# Altium integrated library Capacitors - Ceramic - 0402.IntLib: 4569 symbols (part 31 of 100)
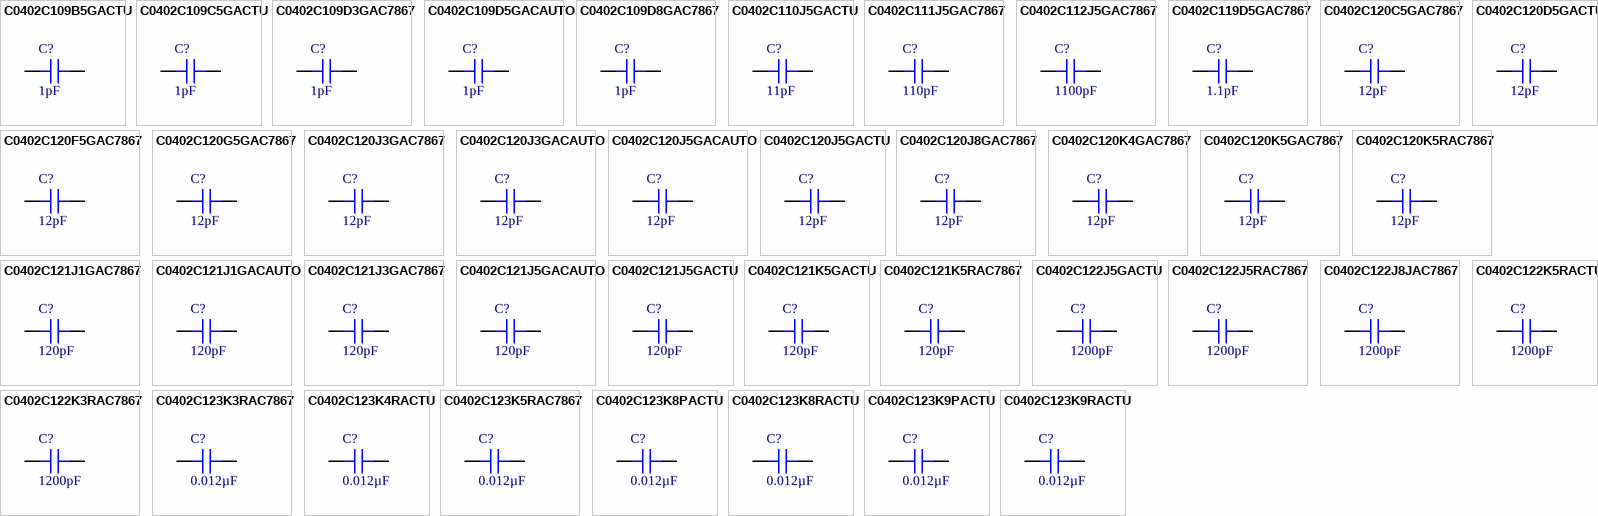
[diagram p144: symbols C0402C109B5GACTU to C0402C123K9RACTU]

## C0402C123K9RACTU
designator C?, comment 0.012µF
CAP CER 0.012UF 6.3V X7R 0402; Part Number: C0402C123K9RACTU; Manufacturer: KEMET; Tolerance: ±10%; Value: 0.012µF; Applications: Bypass, Decoupling; Capacitance: 0.012µF; ComponentLink1Description: Datasheet; ComponentLink1URL: https://api.kemet.com/component-edge/download/datasheet/C0402C123K9RACTU.pdf; ComponentLink2Description: DigiKey Link; ComponentLink2URL: http://digikey.com/product-detail/en/kemet/C0402C123K9RACTU/399-4877-1-ND/1090872; Device Package: 0402 (1005 Metric); LastUpdated: 9/2/2020 1:02:03 AM; Lifecycle Status: Active; Minimum Order: 1; Mounting Type: Surface Mount, MLCC; Operating Temperature: -55°C ~ 125°C; Package / Case: 0402 (1005 Metric); Packaging: TapeAndReel; PartId: 11169; Part Status: Active; Price: 0.07; Series: SMD Comm X7R; Size / Dimension: 0.039" L x 0.020" W (1.00mm x 0.50mm); Supplier 1: DigiKey; Supplier Part Number 1: 399-4877-1-ND; Temperature Coefficient: X7R; Thickness (Max): 0.022" (0.55mm); Voltage - Rated: 6.3V
footprint CAP 0402_1005
pins: 1, 2

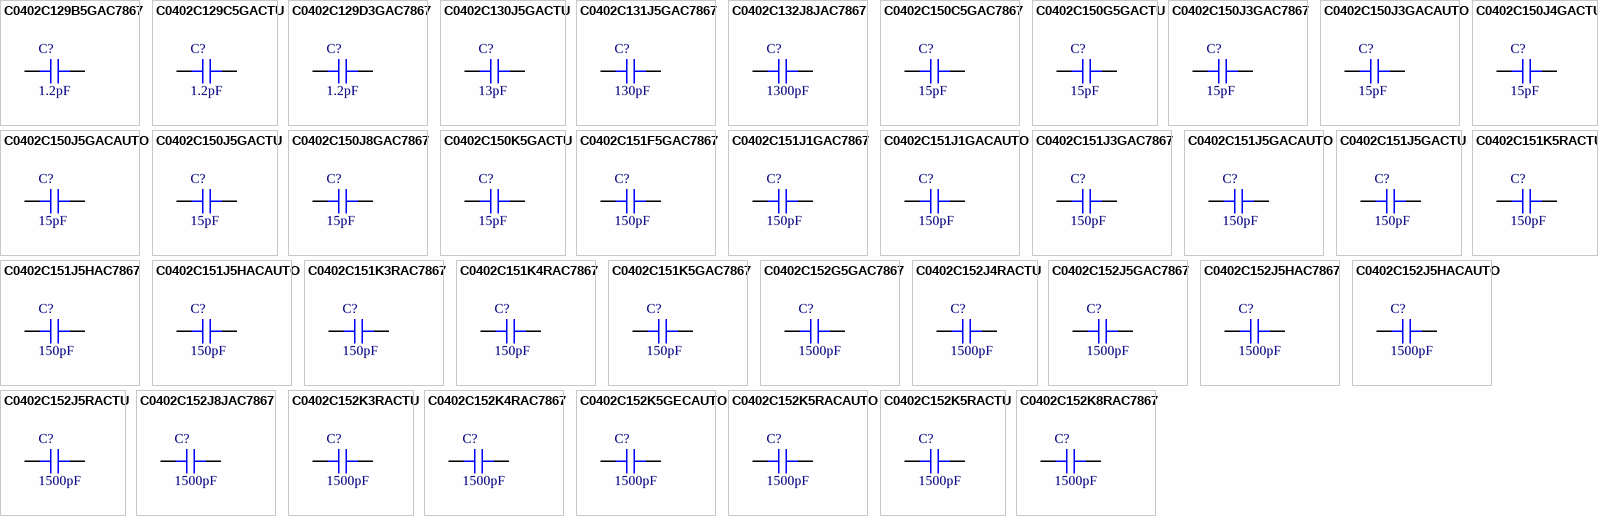
[diagram p35: symbols C0402C129B5GAC7867 to C0402C152K8RAC7867]

## C0402C129B5GAC7867
designator C?, comment 1.2pF
CAP CER SMD 0402 1.2PF .1PF% COG; Part Number: C0402C129B5GAC7867; Manufacturer: KEMET; Temperature Coefficient: C0G, NP0; Tolerance: ±0.1pF; Voltage - Rated: 50V; Value: 1.2pF; Applications: General Purpose; Capacitance: 1.2pF; ComponentLink1Description: Datasheet; ComponentLink1URL: https://api.kemet.com/component-edge/download/datasheet/C0402C129B5GAC7867.pdf; ComponentLink2Description: DigiKey Link; ComponentLink2URL: http://digikey.com/product-detail/en/kemet/C0402C129B5GAC7867/399-17550-1-ND/8572550; Device Package: 0402 (1005 Metric); Features: Low ESL; LastUpdated: 9/2/2020 1:01:32 AM; Lifecycle Status: Active; Minimum Order: 1; Mounting Type: Surface Mount, MLCC; Operating Temperature: -55°C ~ 125°C; Package / Case: 0402 (1005 Metric); Packaging: TapeAndReel; PartId: 12805; Part Status: Active; Price: 0.05; Series: SMD Comm C0G; Size / Dimension: 0.039" L x 0.020" W (1.00mm x 0.50mm); Supplier 1: DigiKey; Supplier Part Number 1: 399-17550-1-ND; Thickness (Max): 0.022" (0.55mm)
footprint CAP 0402_1005
pins: 1, 2

## C0402C129C5GACTU
designator C?, comment 1.2pF
CAP CER 1.2PF 50V C0G/NP0 0402; Part Number: C0402C129C5GACTU; Manufacturer: KEMET; Temperature Coefficient: C0G, NP0; Tolerance: ±0.25pF; Value: 1.2pF; Applications: General Purpose; Capacitance: 1.2pF; ComponentLink1Description: Datasheet; ComponentLink1URL: https://api.kemet.com/component-edge/download/datasheet/C0402C129C5GACTU.pdf; ComponentLink2Description: DigiKey Link; ComponentLink2URL: http://digikey.com/product-detail/en/kemet/C0402C129C5GACTU/399-1001-1-ND/411276; Device Package: 0402 (1005 Metric); Features: Low ESL; LastUpdated: 9/2/2020 1:02:10 AM; Lifecycle Status: Active; Minimum Order: 1; Mounting Type: Surface Mount, MLCC; Operating Temperature: -55°C ~ 125°C; Package / Case: 0402 (1005 Metric); Packaging: TapeAndReel; PartId: 8365; Part Status: Active; Price: 0.01; Series: SMD Comm C0G; Size / Dimension: 0.039" L x 0.020" W (1.00mm x 0.50mm); Supplier 1: DigiKey; Supplier Part Number 1: 399-1001-1-ND; Thickness (Max): 0.022" (0.55mm); Voltage - Rated: 50V
footprint CAP 0402_1005
pins: 1, 2

## C0402C129D3GAC7867
designator C?, comment 1.2pF
CAP CER 1.2PF 25V C0G/NP0 0402; Part Number: C0402C129D3GAC7867; Manufacturer: KEMET; Temperature Coefficient: C0G, NP0; Tolerance: ±0.5pF; Value: 1.2pF; Applications: General Purpose; Capacitance: 1.2pF; ComponentLink1Description: Datasheet; ComponentLink1URL: https://api.kemet.com/component-edge/download/datasheet/C0402C129D3GAC7867.pdf; ComponentLink2Description: DigiKey Link; ComponentLink2URL: http://digikey.com/product-detail/en/kemet/C0402C129D3GAC7867/399-14883-1-ND/7382432; Device Package: 0402 (1005 Metric); Features: Low ESL; LastUpdated: 9/2/2020 1:01:20 AM; Lifecycle Status: Active; Minimum Order: 1; Mounting Type: Surface Mount, MLCC; Operating Temperature: -55°C ~ 125°C; Package / Case: 0402 (1005 Metric); Packaging: TapeAndReel; PartId: 13226; Part Status: Active; Price: 0.07; Series: SMD Comm C0G; Size / Dimension: 0.039" L x 0.020" W (1.00mm x 0.50mm); Supplier 1: DigiKey; Supplier Part Number 1: 399-14883-1-ND; Thickness (Max): 0.022" (0.55mm); Voltage - Rated: 25V
footprint CAP 0402_1005
pins: 1, 2

## C0402C130J5GACTU
designator C?, comment 13pF
CAP CER 13PF 50V C0G/NP0 0402; Part Number: C0402C130J5GACTU; Manufacturer: KEMET; Temperature Coefficient: C0G, NP0; Tolerance: ±5%; Value: 13pF; Applications: General Purpose; Capacitance: 13pF; ComponentLink1Description: Datasheet; ComponentLink1URL: https://api.kemet.com/component-edge/download/datasheet/C0402C130J5GACTU.pdf; ComponentLink2Description: DigiKey Link; ComponentLink2URL: http://digikey.com/product-detail/en/kemet/C0402C130J5GACTU/399-8946-1-ND/3522463; Device Package: 0402 (1005 Metric); Features: Low ESL; LastUpdated: 9/2/2020 1:02:17 AM; Lifecycle Status: Active; Minimum Order: 1; Mounting Type: Surface Mount, MLCC; Operating Temperature: -55°C ~ 125°C; Package / Case: 0402 (1005 Metric); Packaging: TapeAndReel; PartId: 4954; Part Status: Active; Price: 0.09; Series: SMD Comm C0G; Size / Dimension: 0.039" L x 0.020" W (1.00mm x 0.50mm); Supplier 1: DigiKey; Supplier Part Number 1: 399-8946-1-ND; Thickness (Max): 0.022" (0.55mm); Voltage - Rated: 50V
footprint CAP 0402_1005
pins: 1, 2

## C0402C131J5GAC7867
designator C?, comment 130pF
CAP CER 130PF 50V NP0 0402; Part Number: C0402C131J5GAC7867; Manufacturer: KEMET; Temperature Coefficient: C0G, NP0; Tolerance: ±5%; Value: 130pF; Applications: General Purpose; Capacitance: 130pF; ComponentLink1Description: Datasheet; ComponentLink1URL: https://api.kemet.com/component-edge/download/datasheet/C0402C131J5GACTU.pdf; ComponentLink2Description: DigiKey Link; ComponentLink2URL: http://digikey.com/product-detail/en/kemet/C0402C131J5GAC7867/399-14420-1-ND/7103712; Device Package: 0402 (1005 Metric); Features: Low ESL; LastUpdated: 9/2/2020 1:01:31 AM; Lifecycle Status: Active; Minimum Order: 1; Mounting Type: Surface Mount, MLCC; Operating Temperature: -55°C ~ 125°C; Package / Case: 0402 (1005 Metric); Packaging: TapeAndReel; PartId: 12840; Part Status: Active; Price: 0.10; Series: SMD Comm C0G; Size / Dimension: 0.039" L x 0.020" W (1.00mm x 0.50mm); Supplier 1: DigiKey; Supplier Part Number 1: 399-14420-1-ND; Thickness (Max): 0.022" (0.55mm); Voltage - Rated: 50V
footprint CAP 0402_1005
pins: 1, 2

## C0402C132J8JAC7867
designator C?, comment 1300pF
CAP CER 1300PF 10V U2J 0402; Part Number: C0402C132J8JAC7867; Manufacturer: KEMET; Tolerance: ±5%; Value: 1300pF; Applications: General Purpose; Capacitance: 1300pF; ComponentLink1Description: Datasheet; ComponentLink1URL: https://api.kemet.com/component-edge/download/datasheet/C0402C132J8JAC7867.pdf; ComponentLink2Description: DigiKey Link; ComponentLink2URL: http://digikey.com/product-detail/en/kemet/C0402C132J8JAC7867/399-13400-1-ND/6123119; Device Package: 0402 (1005 Metric); Features: Low ESL, Low Dissipation Factor; LastUpdated: 9/2/2020 1:02:22 AM; Lifecycle Status: Active; Minimum Order: 1; Mounting Type: Surface Mount, MLCC; Operating Temperature: -55°C ~ 125°C; Package / Case: 0402 (1005 Metric); Packaging: TapeAndReel; PartId: 2436; Part Status: Active; Price: 0.05; Series: SMD Comm U2J; Size / Dimension: 0.039" L x 0.020" W (1.00mm x 0.50mm); Supplier 1: DigiKey; Supplier Part Number 1: 399-13400-1-ND; Temperature Coefficient: U2J; Thickness (Max): 0.022" (0.55mm); Voltage - Rated: 10V
footprint CAP 0402_1005
pins: 1, 2

## C0402C150C5GAC7867
designator C?, comment 15pF
CAP CER 15PF 50V NP0 0402; Part Number: C0402C150C5GAC7867; Manufacturer: KEMET; Temperature Coefficient: C0G, NP0; Tolerance: ±0.25pF; Value: 15pF; Applications: General Purpose; Capacitance: 15pF; ComponentLink1Description: Datasheet; ComponentLink1URL: https://api.kemet.com/component-edge/download/datasheet/C0402C150C5GACTU.pdf; ComponentLink2Description: DigiKey Link; ComponentLink2URL: http://digikey.com/product-detail/en/kemet/C0402C150C5GAC7867/399-17366-1-ND/8570333; Device Package: 0402 (1005 Metric); Features: Low ESL; LastUpdated: 9/2/2020 1:02:13 AM; Lifecycle Status: Active; Minimum Order: 1; Mounting Type: Surface Mount, MLCC; Operating Temperature: -55°C ~ 125°C; Package / Case: 0402 (1005 Metric); Packaging: TapeAndReel; PartId: 6642; Part Status: Active; Price: 0.26; Series: SMD Comm C0G; Size / Dimension: 0.039" L x 0.020" W (1.00mm x 0.50mm); Supplier 1: DigiKey; Supplier Part Number 1: 399-17366-1-ND; Thickness (Max): 0.022" (0.55mm); Voltage - Rated: 50V
footprint CAP 0402_1005
pins: 1, 2

## C0402C150G5GACTU
designator C?, comment 15pF
CAP CER 15PF 50V C0G/NP0 0402; Part Number: C0402C150G5GACTU; Manufacturer: KEMET; Temperature Coefficient: C0G, NP0; Tolerance: ±2%; Value: 15pF; Applications: General Purpose; Capacitance: 15pF; ComponentLink1Description: Datasheet; ComponentLink1URL: https://api.kemet.com/component-edge/download/datasheet/C0402C150G5GACTU.pdf; ComponentLink2Description: DigiKey Link; ComponentLink2URL: http://digikey.com/product-detail/en/kemet/C0402C150G5GACTU/399-11114-1-ND/4357777; Device Package: 0402 (1005 Metric); Features: Low ESL; LastUpdated: 9/2/2020 1:02:23 AM; Lifecycle Status: Active; Minimum Order: 1; Mounting Type: Surface Mount, MLCC; Operating Temperature: -55°C ~ 125°C; Package / Case: 0402 (1005 Metric); Packaging: TapeAndReel; PartId: 2135; Part Status: Active; Price: 0.21; Series: SMD Comm C0G; Size / Dimension: 0.039" L x 0.020" W (1.00mm x 0.50mm); Supplier 1: DigiKey; Supplier Part Number 1: 399-11114-1-ND; Thickness (Max): 0.022" (0.55mm); Voltage - Rated: 50V
footprint CAP 0402_1005
pins: 1, 2

## C0402C150J3GAC7867
designator C?, comment 15pF
CAP CER 15PF 25V NP0 0402; Part Number: C0402C150J3GAC7867; Manufacturer: KEMET; Temperature Coefficient: C0G, NP0; Tolerance: ±5%; Value: 15pF; Applications: General Purpose; Capacitance: 15pF; ComponentLink1Description: Datasheet; ComponentLink1URL: https://api.kemet.com/component-edge/download/datasheet/C0402C150J3GACTU.pdf; ComponentLink2Description: DigiKey Link; ComponentLink2URL: http://digikey.com/product-detail/en/kemet/C0402C150J3GAC7867/399-15298-1-ND/7386696; Device Package: 0402 (1005 Metric); Features: Low ESL; LastUpdated: 9/2/2020 1:02:19 AM; Lifecycle Status: Active; Minimum Order: 1; Mounting Type: Surface Mount, MLCC; Operating Temperature: -55°C ~ 125°C; Package / Case: 0402 (1005 Metric); Packaging: TapeAndReel; PartId: 4112; Part Status: Active; Price: 0.04; Series: SMD Comm C0G; Size / Dimension: 0.039" L x 0.020" W (1.00mm x 0.50mm); Supplier 1: DigiKey; Supplier Part Number 1: 399-15298-1-ND; Thickness (Max): 0.022" (0.55mm); Voltage - Rated: 25V
footprint CAP 0402_1005
pins: 1, 2

## C0402C150J3GACAUTO
designator C?, comment 15pF
CAP CER 15PF 25V C0G/NP0 0402; Part Number: C0402C150J3GACAUTO; Manufacturer: KEMET; Temperature Coefficient: C0G, NP0; Tolerance: ±5%; Value: 15pF; Applications: Automotive; Capacitance: 15pF; ComponentLink1Description: Datasheet; ComponentLink1URL: https://api.kemet.com/component-edge/download/datasheet/C0402C150J3GACAUTO.pdf; ComponentLink2Description: DigiKey Link; ComponentLink2URL: http://digikey.com/product-detail/en/kemet/C0402C150J3GACAUTO/399-6830-1-ND/3314345; Device Package: 0402 (1005 Metric); Features: Low ESL; LastUpdated: 9/2/2020 1:01:33 AM; Lifecycle Status: Active; Minimum Order: 1; Mounting Type: Surface Mount, MLCC; Operating Temperature: -55°C ~ 125°C; Package / Case: 0402 (1005 Metric); Packaging: TapeAndReel; PartId: 12770; Part Status: Active; Price: 0.05; Ratings: AEC-Q200; Series: SMD Auto C0G; Size / Dimension: 0.039" L x 0.020" W (1.00mm x 0.50mm); Supplier 1: DigiKey; Supplier Part Number 1: 399-6830-1-ND; Thickness (Max): 0.022" (0.55mm); Voltage - Rated: 25V
footprint CAP 0402_1005
pins: 1, 2

## C0402C150J4GACTU
designator C?, comment 15pF
CAP CER 15PF 16V C0G/NP0 0402; Part Number: C0402C150J4GACTU; Manufacturer: KEMET; Temperature Coefficient: C0G, NP0; Tolerance: ±5%; Value: 15pF; Applications: General Purpose; Capacitance: 15pF; ComponentLink1Description: Datasheet; ComponentLink1URL: https://api.kemet.com/component-edge/download/datasheet/C0402C150J4GACTU.pdf; ComponentLink2Description: DigiKey Link; ComponentLink2URL: http://digikey.com/product-detail/en/kemet/C0402C150J4GACTU/399-8947-1-ND/3522464; Device Package: 0402 (1005 Metric); Features: Low ESL; LastUpdated: 9/2/2020 1:02:17 AM; Lifecycle Status: Active; Minimum Order: 1; Mounting Type: Surface Mount, MLCC; Operating Temperature: -55°C ~ 125°C; Package / Case: 0402 (1005 Metric); Packaging: CutTape; PartId: 4832; Part Status: Active; Price: 0.10; Series: SMD Comm C0G; Size / Dimension: 0.039" L x 0.020" W (1.00mm x 0.50mm); Supplier 1: DigiKey; Supplier Part Number 1: 399-8947-1-ND; Thickness (Max): 0.022" (0.55mm); Voltage - Rated: 16V
footprint CAP 0402_1005
pins: 1, 2

## C0402C150J5GACAUTO
designator C?, comment 15pF
CAP CER 15PF 50V NP0 0402; Part Number: C0402C150J5GACAUTO; Manufacturer: KEMET; Temperature Coefficient: C0G, NP0; Tolerance: ±5%; Value: 15pF; Applications: Automotive; Capacitance: 15pF; ComponentLink1Description: Datasheet; ComponentLink1URL: https://api.kemet.com/component-edge/download/datasheet/C0402C150J5GACAUTO.pdf; ComponentLink2Description: DigiKey Link; ComponentLink2URL: http://digikey.com/product-detail/en/kemet/C0402C150J5GACAUTO/399-14421-1-ND/7103713; Device Package: 0402 (1005 Metric); Features: Low ESL; LastUpdated: 9/2/2020 1:02:10 AM; Lifecycle Status: Active; Minimum Order: 1; Mounting Type: Surface Mount, MLCC; Operating Temperature: -55°C ~ 125°C; Package / Case: 0402 (1005 Metric); Packaging: TapeAndReel; PartId: 8392; Part Status: Active; Price: 0.01; Ratings: AEC-Q200; Series: SMD Auto C0G; Size / Dimension: 0.039" L x 0.020" W (1.00mm x 0.50mm); Supplier 1: DigiKey; Supplier Part Number 1: 399-14421-1-ND; Thickness (Max): 0.022" (0.55mm); Voltage - Rated: 50V
footprint CAP 0402_1005
pins: 1, 2

## C0402C150J5GACTU
designator C?, comment 15pF
CAP CER 15PF 50V C0G/NP0 0402; Part Number: C0402C150J5GACTU; Manufacturer: KEMET; Temperature Coefficient: C0G, NP0; Tolerance: ±5%; Value: 15pF; Applications: General Purpose; Capacitance: 15pF; ComponentLink1Description: Datasheet; ComponentLink1URL: https://api.kemet.com/component-edge/download/datasheet/C0402C150J5GACTU.pdf; ComponentLink2Description: DigiKey Link; ComponentLink2URL: http://digikey.com/product-detail/en/kemet/C0402C150J5GACTU/399-1014-1-ND/411289; Device Package: 0402 (1005 Metric); Features: Low ESL; LastUpdated: 9/2/2020 1:01:41 AM; Lifecycle Status: Active; Minimum Order: 1; Mounting Type: Surface Mount, MLCC; Operating Temperature: -55°C ~ 125°C; Package / Case: 0402 (1005 Metric); Packaging: TapeAndReel; PartId: 12510; Part Status: Active; Price: 0.01; Series: SMD Comm C0G; Size / Dimension: 0.039" L x 0.020" W (1.00mm x 0.50mm); Supplier 1: DigiKey; Supplier Part Number 1: 399-1014-1-ND; Thickness (Max): 0.022" (0.55mm); Voltage - Rated: 50V
footprint CAP 0402_1005
pins: 1, 2

## C0402C150J8GAC7867
designator C?, comment 15pF
CAP CER 15PF 10V C0G/NP0 0402; Part Number: C0402C150J8GAC7867; Manufacturer: KEMET; Temperature Coefficient: C0G, NP0; Tolerance: ±5%; Value: 15pF; Applications: General Purpose; Capacitance: 15pF; ComponentLink1Description: Datasheet; ComponentLink1URL: https://api.kemet.com/component-edge/download/datasheet/C0402C150J8GAC7867.pdf; ComponentLink2Description: DigiKey Link; ComponentLink2URL: http://digikey.com/product-detail/en/kemet/C0402C150J8GAC7867/399-14885-1-ND/7382434; Device Package: 0402 (1005 Metric); Features: Low ESL; LastUpdated: 9/2/2020 1:02:11 AM; Lifecycle Status: Active; Minimum Order: 1; Mounting Type: Surface Mount, MLCC; Operating Temperature: -55°C ~ 125°C; Package / Case: 0402 (1005 Metric); Packaging: TapeAndReel; PartId: 7562; Part Status: Active; Price: 0.07; Series: SMD Comm C0G; Size / Dimension: 0.039" L x 0.020" W (1.00mm x 0.50mm); Supplier 1: DigiKey; Supplier Part Number 1: 399-14885-1-ND; Thickness (Max): 0.022" (0.55mm); Voltage - Rated: 10V
footprint CAP 0402_1005
pins: 1, 2

## C0402C150K5GACTU
designator C?, comment 15pF
CAP CER 15PF 50V C0G/NP0 0402; Part Number: C0402C150K5GACTU; Manufacturer: KEMET; Temperature Coefficient: C0G, NP0; Tolerance: ±10%; Value: 15pF; Applications: General Purpose; Capacitance: 15pF; ComponentLink1Description: Datasheet; ComponentLink1URL: https://api.kemet.com/component-edge/download/datasheet/C0402C150K5GACTU.pdf; ComponentLink2Description: DigiKey Link; ComponentLink2URL: http://digikey.com/product-detail/en/kemet/C0402C150K5GACTU/399-8948-1-ND/3522465; Device Package: 0402 (1005 Metric); Features: Low ESL; LastUpdated: 9/2/2020 1:01:42 AM; Lifecycle Status: Active; Minimum Order: 1; Mounting Type: Surface Mount, MLCC; Operating Temperature: -55°C ~ 125°C; Package / Case: 0402 (1005 Metric); Packaging: TapeAndReel; PartId: 12469; Part Status: Active; Price: 0.01; Series: SMD Comm C0G; Size / Dimension: 0.039" L x 0.020" W (1.00mm x 0.50mm); Supplier 1: DigiKey; Supplier Part Number 1: 399-8948-1-ND; Thickness (Max): 0.022" (0.55mm); Voltage - Rated: 50V
footprint CAP 0402_1005
pins: 1, 2

## C0402C151F5GAC7867
designator C?, comment 150pF
CAP CER 150PF 50V NP0 0402; Part Number: C0402C151F5GAC7867; Manufacturer: KEMET; Temperature Coefficient: C0G, NP0; Tolerance: ±1%; Value: 150pF; Applications: General Purpose; Capacitance: 150pF; ComponentLink1Description: Datasheet; ComponentLink1URL: https://api.kemet.com/component-edge/download/datasheet/C0402C151F5GAC7867.pdf; ComponentLink2Description: DigiKey Link; ComponentLink2URL: http://digikey.com/product-detail/en/kemet/C0402C151F5GAC7867/399-14269-1-ND/6827260; Device Package: 0402 (1005 Metric); Features: Low ESL; LastUpdated: 9/2/2020 1:02:26 AM; Lifecycle Status: Active; Minimum Order: 1; Mounting Type: Surface Mount, MLCC; Operating Temperature: -55°C ~ 125°C; Package / Case: 0402 (1005 Metric); Packaging: TapeAndReel; PartId: 1709; Part Status: Active; Price: 0.43; Series: SMD Comm C0G; Size / Dimension: 0.039" L x 0.020" W (1.00mm x 0.50mm); Supplier 1: DigiKey; Supplier Part Number 1: 399-14269-1-ND; Thickness (Max): 0.022" (0.55mm); Voltage - Rated: 50V
footprint CAP 0402_1005
pins: 1, 2

## C0402C151J1GAC7867
designator C?, comment 150pF
CAP CER 150PF 100V C0G/NP0 0402; Part Number: C0402C151J1GAC7867; Manufacturer: KEMET; Temperature Coefficient: C0G, NP0; Tolerance: ±5%; Value: 150pF; Applications: General Purpose; Capacitance: 150pF; ComponentLink1Description: Datasheet; ComponentLink1URL: https://api.kemet.com/component-edge/download/datasheet/C0402C151J1GAC7867.pdf; ComponentLink2Description: DigiKey Link; ComponentLink2URL: http://digikey.com/product-detail/en/kemet/C0402C151J1GAC7867/399-14886-1-ND/7382435; Device Package: 0402 (1005 Metric); Features: Low ESL; LastUpdated: 9/2/2020 1:02:22 AM; Lifecycle Status: Active; Minimum Order: 1; Mounting Type: Surface Mount, MLCC; Operating Temperature: -55°C ~ 125°C; Package / Case: 0402 (1005 Metric); Packaging: TapeAndReel; PartId: 2506; Part Status: Active; Price: 0.09; Series: SMD Comm C0G; Size / Dimension: 0.039" L x 0.020" W (1.00mm x 0.50mm); Supplier 1: DigiKey; Supplier Part Number 1: 399-14886-1-ND; Thickness (Max): 0.022" (0.55mm); Voltage - Rated: 100V
footprint CAP 0402_1005
pins: 1, 2

## C0402C151J1GACAUTO
designator C?, comment 150pF
CAP CER 150PF 100V C0G/NP0 0402; Part Number: C0402C151J1GACAUTO; Manufacturer: KEMET; Temperature Coefficient: C0G, NP0; Tolerance: ±5%; Value: 150pF; Applications: Automotive; Capacitance: 150pF; ComponentLink1Description: Datasheet; ComponentLink1URL: https://api.kemet.com/component-edge/download/datasheet/C0402C151J1GACAUTO.pdf; ComponentLink2Description: DigiKey Link; ComponentLink2URL: http://digikey.com/product-detail/en/kemet/C0402C151J1GACAUTO/399-15852-1-ND/7516352; Device Package: 0402 (1005 Metric); Features: Low ESL; LastUpdated: 9/2/2020 1:02:17 AM; Lifecycle Status: Active; Minimum Order: 1; Mounting Type: Surface Mount, MLCC; Operating Temperature: -55°C ~ 125°C; Package / Case: 0402 (1005 Metric); Packaging: TapeAndReel; PartId: 4978; Part Status: Active; Price: 0.09; Ratings: AEC-Q200; Series: SMD Auto C0G; Size / Dimension: 0.039" L x 0.020" W (1.00mm x 0.50mm); Supplier 1: DigiKey; Supplier Part Number 1: 399-15852-1-ND; Thickness (Max): 0.022" (0.55mm); Voltage - Rated: 100V
footprint CAP 0402_1005
pins: 1, 2

## C0402C151J3GAC7867
designator C?, comment 150pF
CAP CER 150PF 25V NP0 0402; Part Number: C0402C151J3GAC7867; Manufacturer: KEMET; Temperature Coefficient: C0G, NP0; Tolerance: ±5%; Value: 150pF; Applications: General Purpose; Capacitance: 150pF; ComponentLink1Description: Datasheet; ComponentLink1URL: https://api.kemet.com/component-edge/download/datasheet/C0402C151J3GACTU.pdf; ComponentLink2Description: DigiKey Link; ComponentLink2URL: http://digikey.com/product-detail/en/kemet/C0402C151J3GAC7867/399-14422-1-ND/7103714; Device Package: 0402 (1005 Metric); Features: Low ESL; LastUpdated: 9/2/2020 1:02:24 AM; Lifecycle Status: Active; Minimum Order: 1; Mounting Type: Surface Mount, MLCC; Operating Temperature: -55°C ~ 125°C; Package / Case: 0402 (1005 Metric); Packaging: TapeAndReel; PartId: 1914; Part Status: Active; Price: 0.01; Series: SMD Comm C0G; Size / Dimension: 0.039" L x 0.020" W (1.00mm x 0.50mm); Supplier 1: DigiKey; Supplier Part Number 1: 399-14422-1-ND; Thickness (Max): 0.022" (0.55mm); Voltage - Rated: 25V
footprint CAP 0402_1005
pins: 1, 2

## C0402C151J5GACAUTO
designator C?, comment 150pF
CAP CER 150PF 50V C0G/NP0 0402; Part Number: C0402C151J5GACAUTO; Manufacturer: KEMET; Temperature Coefficient: C0G, NP0; Tolerance: ±5%; Value: 150pF; Applications: Automotive; Capacitance: 150pF; ComponentLink1Description: Datasheet; ComponentLink1URL: https://api.kemet.com/component-edge/download/datasheet/C0402C151J5GACAUTO.pdf; ComponentLink2Description: DigiKey Link; ComponentLink2URL: http://digikey.com/product-detail/en/kemet/C0402C151J5GACAUTO/399-15948-1-ND/7516448; Device Package: 0402 (1005 Metric); Features: Low ESL; LastUpdated: 9/2/2020 1:02:10 AM; Lifecycle Status: Active; Minimum Order: 1; Mounting Type: Surface Mount, MLCC; Operating Temperature: -55°C ~ 125°C; Package / Case: 0402 (1005 Metric); Packaging: TapeAndReel; PartId: 8137; Part Status: Active; Price: 0.01; Ratings: AEC-Q200; Series: SMD Auto C0G; Size / Dimension: 0.039" L x 0.020" W (1.00mm x 0.50mm); Supplier 1: DigiKey; Supplier Part Number 1: 399-15948-1-ND; Thickness (Max): 0.022" (0.55mm); Voltage - Rated: 50V
footprint CAP 0402_1005
pins: 1, 2

## C0402C151J5GACTU
designator C?, comment 150pF
CAP CER 150PF 50V C0G/NP0 0402; Part Number: C0402C151J5GACTU; Manufacturer: KEMET; Temperature Coefficient: C0G, NP0; Tolerance: ±5%; Value: 150pF; Applications: General Purpose; Capacitance: 150pF; ComponentLink1Description: Datasheet; ComponentLink1URL: https://api.kemet.com/component-edge/download/datasheet/C0402C151J5GACTU.pdf; ComponentLink2Description: DigiKey Link; ComponentLink2URL: http://digikey.com/product-detail/en/kemet/C0402C151J5GACTU/399-7770-1-ND/3471493; Device Package: 0402 (1005 Metric); Features: Low ESL; LastUpdated: 9/2/2020 1:02:16 AM; Lifecycle Status: Active; Minimum Order: 1; Mounting Type: Surface Mount, MLCC; Operating Temperature: -55°C ~ 125°C; Package / Case: 0402 (1005 Metric); Packaging: TapeAndReel; PartId: 5667; Part Status: Active; Price: 0.01; Series: SMD Comm C0G; Size / Dimension: 0.039" L x 0.020" W (1.00mm x 0.50mm); Supplier 1: DigiKey; Supplier Part Number 1: 399-7770-1-ND; Thickness (Max): 0.022" (0.55mm); Voltage - Rated: 50V
footprint CAP 0402_1005
pins: 1, 2

## C0402C151J5HAC7867
designator C?, comment 150pF
CAP CER 150PF 50V X8R 5% 0402; Part Number: C0402C151J5HAC7867; Manufacturer: KEMET; Value: 150pF; Applications: General Purpose; Capacitance: 150pF; ComponentLink1Description: Datasheet; ComponentLink1URL: https://api.kemet.com/component-edge/download/datasheet/C0402C151J5HAC7867.pdf; ComponentLink2Description: DigiKey Link; ComponentLink2URL: http://digikey.com/product-detail/en/kemet/C0402C151J5HAC7867/399-16398-1-ND/7795478; Device Package: 0402 (1005 Metric); Features: Low ESL, High Temperature; LastUpdated: 9/2/2020 1:02:24 AM; Lifecycle Status: Active; Minimum Order: 1; Mounting Type: Surface Mount, MLCC; Operating Temperature: -55°C ~ 150°C; Package / Case: 0402 (1005 Metric); Packaging: TapeAndReel; PartId: 1998; Part Status: Active; Price: 0.11; Series: SMD Comm X8R HT150C; Size / Dimension: 0.039" L x 0.020" W (1.00mm x 0.50mm); Supplier 1: DigiKey; Supplier Part Number 1: 399-16398-1-ND; Temperature Coefficient: X8R; Thickness (Max): 0.022" (0.55mm); Tolerance: ±5%; Voltage - Rated: 50V
footprint CAP 0402_1005
pins: 1, 2

## C0402C151J5HACAUTO
designator C?, comment 150pF
CAP CER 150PF 50V X8R 0402; Part Number: C0402C151J5HACAUTO; Manufacturer: KEMET; Tolerance: ±5%; Value: 150pF; Applications: Automotive; Capacitance: 150pF; ComponentLink1Description: Datasheet; ComponentLink1URL: https://api.kemet.com/component-edge/download/datasheet/C0402C151J5HACAUTO.pdf; ComponentLink2Description: DigiKey Link; ComponentLink2URL: http://digikey.com/product-detail/en/kemet/C0402C151J5HACAUTO/399-15787-1-ND/7516287; Device Package: 0402 (1005 Metric); Features: Low ESL, High Temperature; LastUpdated: 9/2/2020 1:02:24 AM; Lifecycle Status: Active; Minimum Order: 1; Mounting Type: Surface Mount, MLCC; Operating Temperature: -55°C ~ 150°C; Package / Case: 0402 (1005 Metric); Packaging: TapeAndReel; PartId: 2001; Part Status: Active; Price: 0.11; Ratings: AEC-Q200; Series: SMD Auto X8R HT150C; Size / Dimension: 0.039" L x 0.020" W (1.00mm x 0.50mm); Supplier 1: DigiKey; Supplier Part Number 1: 399-15787-1-ND; Temperature Coefficient: X8R; Thickness (Max): 0.022" (0.55mm); Voltage - Rated: 50V
footprint CAP 0402_1005
pins: 1, 2

## C0402C151K3RAC7867
designator C?, comment 150pF
CAP CER 150PF 25V X7R 0402; Part Number: C0402C151K3RAC7867; Manufacturer: KEMET; Tolerance: ±10%; Value: 150pF; Applications: Bypass, Decoupling; Capacitance: 150pF; ComponentLink1Description: Datasheet; ComponentLink1URL: https://api.kemet.com/component-edge/download/datasheet/C0402C151K3RACTU.pdf; ComponentLink2Description: DigiKey Link; ComponentLink2URL: http://digikey.com/product-detail/en/kemet/C0402C151K3RAC7867/399-17367-1-ND/8570334; Device Package: 0402 (1005 Metric); LastUpdated: 9/2/2020 1:02:14 AM; Lifecycle Status: Active; Minimum Order: 1; Mounting Type: Surface Mount, MLCC; Operating Temperature: -55°C ~ 125°C; Package / Case: 0402 (1005 Metric); Packaging: TapeAndReel; PartId: 6584; Part Status: Active; Price: 0.08; Series: SMD Comm X7R; Size / Dimension: 0.039" L x 0.020" W (1.00mm x 0.50mm); Supplier 1: DigiKey; Supplier Part Number 1: 399-17367-1-ND; Temperature Coefficient: X7R; Thickness (Max): 0.022" (0.55mm); Voltage - Rated: 25V
footprint CAP 0402_1005
pins: 1, 2

## C0402C151K4RAC7867
designator C?, comment 150pF
CAP CER 150PF 16V X7R 0402; Part Number: C0402C151K4RAC7867; Manufacturer: KEMET; Tolerance: ±10%; Value: 150pF; Applications: Bypass, Decoupling; Capacitance: 150pF; ComponentLink1Description: Datasheet; ComponentLink1URL: https://api.kemet.com/component-edge/download/datasheet/C0402C151K4RACTU.pdf; ComponentLink2Description: DigiKey Link; ComponentLink2URL: http://digikey.com/product-detail/en/kemet/C0402C151K4RAC7867/399-14423-1-ND/7103715; Device Package: 0402 (1005 Metric); LastUpdated: 9/2/2020 1:02:14 AM; Lifecycle Status: Active; Minimum Order: 1; Mounting Type: Surface Mount, MLCC; Operating Temperature: -55°C ~ 125°C; Package / Case: 0402 (1005 Metric); Packaging: TapeAndReel; PartId: 6612; Part Status: Active; Price: 0.08; Series: SMD Comm X7R; Size / Dimension: 0.039" L x 0.020" W (1.00mm x 0.50mm); Supplier 1: DigiKey; Supplier Part Number 1: 399-14423-1-ND; Temperature Coefficient: X7R; Thickness (Max): 0.022" (0.55mm); Voltage - Rated: 16V
footprint CAP 0402_1005
pins: 1, 2

## C0402C151K5GAC7867
designator C?, comment 150pF
CAP CER 150PF 50V NP0 0402; Part Number: C0402C151K5GAC7867; Manufacturer: KEMET; Temperature Coefficient: C0G, NP0; Tolerance: ±10%; Value: 150pF; Applications: General Purpose; Capacitance: 150pF; ComponentLink1Description: Datasheet; ComponentLink1URL: https://api.kemet.com/component-edge/download/datasheet/C0402C151K5GAC7867.pdf; ComponentLink2Description: DigiKey Link; ComponentLink2URL: http://digikey.com/product-detail/en/kemet/C0402C151K5GAC7867/399-14270-1-ND/6827261; Device Package: 0402 (1005 Metric); Features: Low ESL; LastUpdated: 9/2/2020 1:01:37 AM; Lifecycle Status: Active; Minimum Order: 1; Mounting Type: Surface Mount, MLCC; Operating Temperature: -55°C ~ 125°C; Package / Case: 0402 (1005 Metric); Packaging: TapeAndReel; PartId: 12645; Part Status: Active; Price: 0.01; Series: SMD Comm C0G; Size / Dimension: 0.039" L x 0.020" W (1.00mm x 0.50mm); Supplier 1: DigiKey; Supplier Part Number 1: 399-14270-1-ND; Thickness (Max): 0.022" (0.55mm); Voltage - Rated: 50V
footprint CAP 0402_1005
pins: 1, 2

## C0402C151K5RACTU
designator C?, comment 150pF
CAP CER 150PF 50V X7R 0402; Part Number: C0402C151K5RACTU; Manufacturer: KEMET; Tolerance: ±10%; Value: 150pF; Applications: Bypass, Decoupling; Capacitance: 150pF; ComponentLink1Description: Datasheet; ComponentLink1URL: https://api.kemet.com/component-edge/download/datasheet/C0402C151K5RACTU.pdf; ComponentLink2Description: DigiKey Link; ComponentLink2URL: http://digikey.com/product-detail/en/kemet/C0402C151K5RACTU/399-7771-1-ND/3471494; Device Package: 0402 (1005 Metric); LastUpdated: 9/2/2020 1:02:07 AM; Lifecycle Status: Active; Minimum Order: 1; Mounting Type: Surface Mount, MLCC; Operating Temperature: -55°C ~ 125°C; Package / Case: 0402 (1005 Metric); Packaging: TapeAndReel; PartId: 9647; Part Status: Active; Price: 0.08; Series: SMD Comm X7R; Size / Dimension: 0.039" L x 0.020" W (1.00mm x 0.50mm); Supplier 1: DigiKey; Supplier Part Number 1: 399-7771-1-ND; Temperature Coefficient: X7R; Thickness (Max): 0.022" (0.55mm); Voltage - Rated: 50V
footprint CAP 0402_1005
pins: 1, 2

## C0402C152G5GAC7867
designator C?, comment 1500pF
CAP CER SMD 0402 1500PF 2% COG 5; Part Number: C0402C152G5GAC7867; Manufacturer: KEMET; Temperature Coefficient: C0G, NP0; Voltage - Rated: 50V; Value: 1500pF; Applications: General Purpose; Capacitance: 1500pF; ComponentLink1Description: Datasheet; ComponentLink1URL: https://api.kemet.com/component-edge/download/datasheet/C0402C152G5GAC7867.pdf; ComponentLink2Description: DigiKey Link; ComponentLink2URL: http://digikey.com/product-detail/en/kemet/C0402C152G5GAC7867/399-17551-1-ND/8572551; Device Package: 0402 (1005 Metric); Features: Low ESL; LastUpdated: 9/2/2020 1:02:20 AM; Lifecycle Status: Active; Minimum Order: 1; Mounting Type: Surface Mount, MLCC; Operating Temperature: -55°C ~ 125°C; Package / Case: 0402 (1005 Metric); Packaging: TapeAndReel; PartId: 3796; Part Status: Active; Price: 0.26; Series: SMD Comm C0G; Size / Dimension: 0.039" L x 0.020" W (1.00mm x 0.50mm); Supplier 1: DigiKey; Supplier Part Number 1: 399-17551-1-ND; Thickness (Max): 0.022" (0.55mm); Tolerance: ±2%
footprint CAP 0402_1005
pins: 1, 2

## C0402C152J4RACTU
designator C?, comment 1500pF
CAP CER 1500PF 16V X7R 0402; Part Number: C0402C152J4RACTU; Manufacturer: KEMET; Tolerance: ±5%; Value: 1500pF; Applications: Bypass, Decoupling; Capacitance: 1500pF; ComponentLink1Description: Datasheet; ComponentLink1URL: https://api.kemet.com/component-edge/download/datasheet/C0402C152J4RACTU.pdf; ComponentLink2Description: DigiKey Link; ComponentLink2URL: http://digikey.com/product-detail/en/kemet/C0402C152J4RACTU/399-8949-1-ND/3522466; Device Package: 0402 (1005 Metric); LastUpdated: 9/2/2020 1:01:31 AM; Lifecycle Status: Active; Minimum Order: 1; Mounting Type: Surface Mount, MLCC; Operating Temperature: -55°C ~ 125°C; Package / Case: 0402 (1005 Metric); Packaging: TapeAndReel; PartId: 12835; Part Status: Active; Price: 0.10; Series: SMD Comm X7R; Size / Dimension: 0.039" L x 0.020" W (1.00mm x 0.50mm); Supplier 1: DigiKey; Supplier Part Number 1: 399-8949-1-ND; Temperature Coefficient: X7R; Thickness (Max): 0.022" (0.55mm); Voltage - Rated: 16V
footprint CAP 0402_1005
pins: 1, 2

## C0402C152J5GAC7867
designator C?, comment 1500pF
CAP CER 1500PF 50V NP0 0402; Part Number: C0402C152J5GAC7867; Manufacturer: KEMET; Temperature Coefficient: C0G, NP0; Tolerance: ±5%; Value: 1500pF; Applications: General Purpose; Capacitance: 1500pF; ComponentLink1Description: Datasheet; ComponentLink1URL: https://api.kemet.com/component-edge/download/datasheet/C0402C152J5GACTU.pdf; ComponentLink2Description: DigiKey Link; ComponentLink2URL: http://digikey.com/product-detail/en/kemet/C0402C152J5GAC7867/399-14424-1-ND/7103716; Device Package: 0402 (1005 Metric); Features: Low ESL; LastUpdated: 9/2/2020 1:02:19 AM; Lifecycle Status: Active; Minimum Order: 1; Mounting Type: Surface Mount, MLCC; Operating Temperature: -55°C ~ 125°C; Package / Case: 0402 (1005 Metric); Packaging: TapeAndReel; PartId: 4192; Part Status: Active; Price: 0.10; Series: SMD Comm C0G; Size / Dimension: 0.039" L x 0.020" W (1.00mm x 0.50mm); Supplier 1: DigiKey; Supplier Part Number 1: 399-14424-1-ND; Thickness (Max): 0.022" (0.55mm); Voltage - Rated: 50V
footprint CAP 0402_1005
pins: 1, 2

## C0402C152J5HAC7867
designator C?, comment 1500pF
CAP CER 1500PF 50V X8R 5% 0402; Part Number: C0402C152J5HAC7867; Manufacturer: KEMET; Value: 1500pF; Applications: General Purpose; Capacitance: 1500pF; ComponentLink1Description: Datasheet; ComponentLink1URL: https://api.kemet.com/component-edge/download/datasheet/C0402C152J5HAC7867.pdf; ComponentLink2Description: DigiKey Link; ComponentLink2URL: http://digikey.com/product-detail/en/kemet/C0402C152J5HAC7867/399-16399-1-ND/7795479; Device Package: 0402 (1005 Metric); Features: Low ESL, High Temperature; LastUpdated: 9/2/2020 1:02:12 AM; Lifecycle Status: Active; Minimum Order: 1; Mounting Type: Surface Mount, MLCC; Operating Temperature: -55°C ~ 150°C; Package / Case: 0402 (1005 Metric); Packaging: TapeAndReel; PartId: 7262; Part Status: Active; Price: 0.12; Series: SMD Comm X8R HT150C; Size / Dimension: 0.039" L x 0.020" W (1.00mm x 0.50mm); Supplier 1: DigiKey; Supplier Part Number 1: 399-16399-1-ND; Temperature Coefficient: X8R; Thickness (Max): 0.022" (0.55mm); Tolerance: ±5%; Voltage - Rated: 50V
footprint CAP 0402_1005
pins: 1, 2

## C0402C152J5HACAUTO
designator C?, comment 1500pF
CAP CER 1500PF 50V X8R 0402; Part Number: C0402C152J5HACAUTO; Manufacturer: KEMET; Tolerance: ±5%; Value: 1500pF; Applications: Automotive; Capacitance: 1500pF; ComponentLink1Description: Datasheet; ComponentLink1URL: https://api.kemet.com/component-edge/download/datasheet/C0402C152J5HACAUTO.pdf; ComponentLink2Description: DigiKey Link; ComponentLink2URL: http://digikey.com/product-detail/en/kemet/C0402C152J5HACAUTO/399-15761-1-ND/7516261; Device Package: 0402 (1005 Metric); Features: Low ESL, High Temperature; LastUpdated: 9/2/2020 1:02:05 AM; Lifecycle Status: Active; Minimum Order: 1; Mounting Type: Surface Mount, MLCC; Operating Temperature: -55°C ~ 150°C; Package / Case: 0402 (1005 Metric); Packaging: TapeAndReel; PartId: 10234; Part Status: Active; Price: 0.12; Ratings: AEC-Q200; Series: SMD Auto X8R HT150C; Size / Dimension: 0.039" L x 0.020" W (1.00mm x 0.50mm); Supplier 1: DigiKey; Supplier Part Number 1: 399-15761-1-ND; Temperature Coefficient: X8R; Thickness (Max): 0.022" (0.55mm); Voltage - Rated: 50V
footprint CAP 0402_1005
pins: 1, 2

## C0402C152J5RACTU
designator C?, comment 1500pF
CAP CER 1500PF 50V X7R 0402; Part Number: C0402C152J5RACTU; Manufacturer: KEMET; Tolerance: ±5%; Value: 1500pF; Applications: Bypass, Decoupling; Capacitance: 1500pF; ComponentLink1Description: Datasheet; ComponentLink1URL: https://api.kemet.com/component-edge/download/datasheet/C0402C152J5RACTU.pdf; ComponentLink2Description: DigiKey Link; ComponentLink2URL: http://digikey.com/product-detail/en/kemet/C0402C152J5RACTU/399-8950-1-ND/3522467; Device Package: 0402 (1005 Metric); LastUpdated: 9/2/2020 1:02:18 AM; Lifecycle Status: Active; Minimum Order: 1; Mounting Type: Surface Mount, MLCC; Operating Temperature: -55°C ~ 125°C; Package / Case: 0402 (1005 Metric); Packaging: TapeAndReel; PartId: 4676; Part Status: Active; Price: 0.02; Series: SMD Comm X7R; Size / Dimension: 0.039" L x 0.020" W (1.00mm x 0.50mm); Supplier 1: DigiKey; Supplier Part Number 1: 399-8950-1-ND; Temperature Coefficient: X7R; Thickness (Max): 0.022" (0.55mm); Voltage - Rated: 50V
footprint CAP 0402_1005
pins: 1, 2

## C0402C152J8JAC7867
designator C?, comment 1500pF
CAP CER 1500PF 10V U2J 0402; Part Number: C0402C152J8JAC7867; Manufacturer: KEMET; Tolerance: ±5%; Value: 1500pF; Applications: General Purpose; Capacitance: 1500pF; ComponentLink1Description: Datasheet; ComponentLink1URL: https://api.kemet.com/component-edge/download/datasheet/C0402C152J8JAC7867.pdf; ComponentLink2Description: DigiKey Link; ComponentLink2URL: http://digikey.com/product-detail/en/kemet/C0402C152J8JAC7867/399-13401-1-ND/6123120; Device Package: 0402 (1005 Metric); Features: Low ESL, Low Dissipation Factor; LastUpdated: 9/2/2020 1:02:20 AM; Lifecycle Status: Active; Minimum Order: 1; Mounting Type: Surface Mount, MLCC; Operating Temperature: -55°C ~ 125°C; Package / Case: 0402 (1005 Metric); Packaging: TapeAndReel; PartId: 3662; Part Status: Active; Price: 0.03; Series: SMD Comm U2J; Size / Dimension: 0.039" L x 0.020" W (1.00mm x 0.50mm); Supplier 1: DigiKey; Supplier Part Number 1: 399-13401-1-ND; Temperature Coefficient: U2J; Thickness (Max): 0.022" (0.55mm); Voltage - Rated: 10V
footprint CAP 0402_1005
pins: 1, 2

## C0402C152K3RACTU
designator C?, comment 1500pF
CAP CER 1500PF 25V X7R 0402; Part Number: C0402C152K3RACTU; Manufacturer: KEMET; Tolerance: ±10%; Value: 1500pF; Applications: Bypass, Decoupling; Capacitance: 1500pF; ComponentLink1Description: Datasheet; ComponentLink1URL: https://api.kemet.com/component-edge/download/datasheet/C0402C152K3RACTU.pdf; ComponentLink2Description: DigiKey Link; ComponentLink2URL: http://digikey.com/product-detail/en/kemet/C0402C152K3RACTU/399-8951-1-ND/3522468; Device Package: 0402 (1005 Metric); LastUpdated: 9/2/2020 1:02:12 AM; Lifecycle Status: Active; Minimum Order: 1; Mounting Type: Surface Mount, MLCC; Operating Temperature: -55°C ~ 125°C; Package / Case: 0402 (1005 Metric); Packaging: TapeAndReel; PartId: 7508; Part Status: Active; Price: 0.02; Series: SMD Comm X7R; Size / Dimension: 0.039" L x 0.020" W (1.00mm x 0.50mm); Supplier 1: DigiKey; Supplier Part Number 1: 399-8951-1-ND; Temperature Coefficient: X7R; Thickness (Max): 0.022" (0.55mm); Voltage - Rated: 25V
footprint CAP 0402_1005
pins: 1, 2

## C0402C152K4RAC7867
designator C?, comment 1500pF
CAP CER 1500PF 16V X7R 0402; Part Number: C0402C152K4RAC7867; Manufacturer: KEMET; Tolerance: ±10%; Value: 1500pF; Applications: Bypass, Decoupling; Capacitance: 1500pF; ComponentLink1Description: Datasheet; ComponentLink1URL: https://api.kemet.com/component-edge/download/datasheet/C0402C152K4RACTU.pdf; ComponentLink2Description: DigiKey Link; ComponentLink2URL: http://digikey.com/product-detail/en/kemet/C0402C152K4RAC7867/399-14425-1-ND/7103717; Device Package: 0402 (1005 Metric); LastUpdated: 9/2/2020 1:02:23 AM; Lifecycle Status: Active; Minimum Order: 1; Mounting Type: Surface Mount, MLCC; Operating Temperature: -55°C ~ 125°C; Package / Case: 0402 (1005 Metric); Packaging: TapeAndReel; PartId: 2121; Part Status: Active; Price: 0.07; Series: SMD Comm X7R; Size / Dimension: 0.039" L x 0.020" W (1.00mm x 0.50mm); Supplier 1: DigiKey; Supplier Part Number 1: 399-14425-1-ND; Temperature Coefficient: X7R; Thickness (Max): 0.022" (0.55mm); Voltage - Rated: 16V
footprint CAP 0402_1005
pins: 1, 2

## C0402C152K5GECAUTO
designator C?, comment 1500pF
CAP CER 0402 1.5NF 50V C0G 10%; Part Number: C0402C152K5GECAUTO; Manufacturer: KEMET; Temperature Coefficient: C0G, NP0; Value: 1500pF; Applications: Automotive, ESD Protection; Capacitance: 1500pF; ComponentLink1Description: Datasheet; ComponentLink1URL: https://api.kemet.com/component-edge/download/datasheet/C0402C152K5GECAUTO.pdf; ComponentLink2Description: DigiKey Link; ComponentLink2URL: http://digikey.com/product-detail/en/kemet/C0402C152K5GECAUTO/399-17901-1-ND/8640568; Device Package: 0402 (1005 Metric); Features: Low ESL; LastUpdated: 9/2/2020 1:01:52 AM; Lifecycle Status: Active; Minimum Order: 1; Mounting Type: Surface Mount, MLCC; Operating Temperature: -55°C ~ 125°C; Package / Case: 0402 (1005 Metric); Packaging: TapeAndReel; PartId: 12116; Part Status: Active; Price: 0.02; Ratings: AEC-Q200; Series: ESD SMD Auto C0G; Size / Dimension: 0.039" L x 0.020" W (1.00mm x 0.50mm); Supplier 1: DigiKey; Supplier Part Number 1: 399-17901-1-ND; Thickness (Max): 0.022" (0.55mm); Tolerance: ±10%; Voltage - Rated: 50V
footprint CAP 0402_1005
pins: 1, 2

## C0402C152K5RACAUTO
designator C?, comment 1500pF
CAP CER 1500PF 50V X7R 0402; Part Number: C0402C152K5RACAUTO; Manufacturer: KEMET; Tolerance: ±10%; Value: 1500pF; Applications: Automotive, Bypass, Decoupling; Capacitance: 1500pF; ComponentLink1Description: Datasheet; ComponentLink1URL: https://api.kemet.com/component-edge/download/datasheet/C0402C152K5RACAUTO.pdf; ComponentLink2Description: DigiKey Link; ComponentLink2URL: http://digikey.com/product-detail/en/kemet/C0402C152K5RACAUTO/399-15955-1-ND/7516455; Device Package: 0402 (1005 Metric); LastUpdated: 9/2/2020 1:02:09 AM; Lifecycle Status: Active; Minimum Order: 1; Mounting Type: Surface Mount, MLCC; Operating Temperature: -55°C ~ 125°C; Package / Case: 0402 (1005 Metric); Packaging: TapeAndReel; PartId: 8532; Part Status: Active; Price: 0.02; Ratings: AEC-Q200; Series: SMD Auto X7R; Size / Dimension: 0.039" L x 0.020" W (1.00mm x 0.50mm); Supplier 1: DigiKey; Supplier Part Number 1: 399-15955-1-ND; Temperature Coefficient: X7R; Thickness (Max): 0.022" (0.55mm); Voltage - Rated: 50V
footprint CAP 0402_1005
pins: 1, 2

## C0402C152K5RACTU
designator C?, comment 1500pF
CAP CER 1500PF 50V X7R 0402; Part Number: C0402C152K5RACTU; Manufacturer: KEMET; Tolerance: ±10%; Value: 1500pF; Applications: Bypass, Decoupling; Capacitance: 1500pF; ComponentLink1Description: Datasheet; ComponentLink1URL: https://api.kemet.com/component-edge/download/datasheet/C0402C152K5RACTU.pdf; ComponentLink2Description: DigiKey Link; ComponentLink2URL: http://digikey.com/product-detail/en/kemet/C0402C152K5RACTU/399-1029-1-ND/411304; Device Package: 0402 (1005 Metric); LastUpdated: 9/2/2020 1:02:03 AM; Lifecycle Status: Active; Minimum Order: 1; Mounting Type: Surface Mount, MLCC; Operating Temperature: -55°C ~ 125°C; Package / Case: 0402 (1005 Metric); Packaging: TapeAndReel; PartId: 11394; Part Status: Active; Price: 0.01; Series: SMD Comm X7R; Size / Dimension: 0.039" L x 0.020" W (1.00mm x 0.50mm); Supplier 1: DigiKey; Supplier Part Number 1: 399-1029-1-ND; Temperature Coefficient: X7R; Thickness (Max): 0.022" (0.55mm); Voltage - Rated: 50V
footprint CAP 0402_1005
pins: 1, 2

## C0402C152K8RAC7867
designator C?, comment 1500pF
CAP CER 1500PF 10V X7R 0402; Part Number: C0402C152K8RAC7867; Manufacturer: KEMET; Tolerance: ±10%; Value: 1500pF; Applications: Bypass, Decoupling; Capacitance: 1500pF; ComponentLink1Description: Datasheet; ComponentLink1URL: https://api.kemet.com/component-edge/download/datasheet/C0402C152K8RACTU.pdf; ComponentLink2Description: DigiKey Link; ComponentLink2URL: http://digikey.com/product-detail/en/kemet/C0402C152K8RAC7867/399-15299-1-ND/7386697; Device Package: 0402 (1005 Metric); LastUpdated: 9/2/2020 1:02:14 AM; Lifecycle Status: Active; Minimum Order: 1; Mounting Type: Surface Mount, MLCC; Operating Temperature: -55°C ~ 125°C; Package / Case: 0402 (1005 Metric); Packaging: TapeAndReel; PartId: 6567; Part Status: Active; Price: 0.08; Series: SMD Comm X7R; Size / Dimension: 0.039" L x 0.020" W (1.00mm x 0.50mm); Supplier 1: DigiKey; Supplier Part Number 1: 399-15299-1-ND; Temperature Coefficient: X7R; Thickness (Max): 0.022" (0.55mm); Voltage - Rated: 10V
footprint CAP 0402_1005
pins: 1, 2

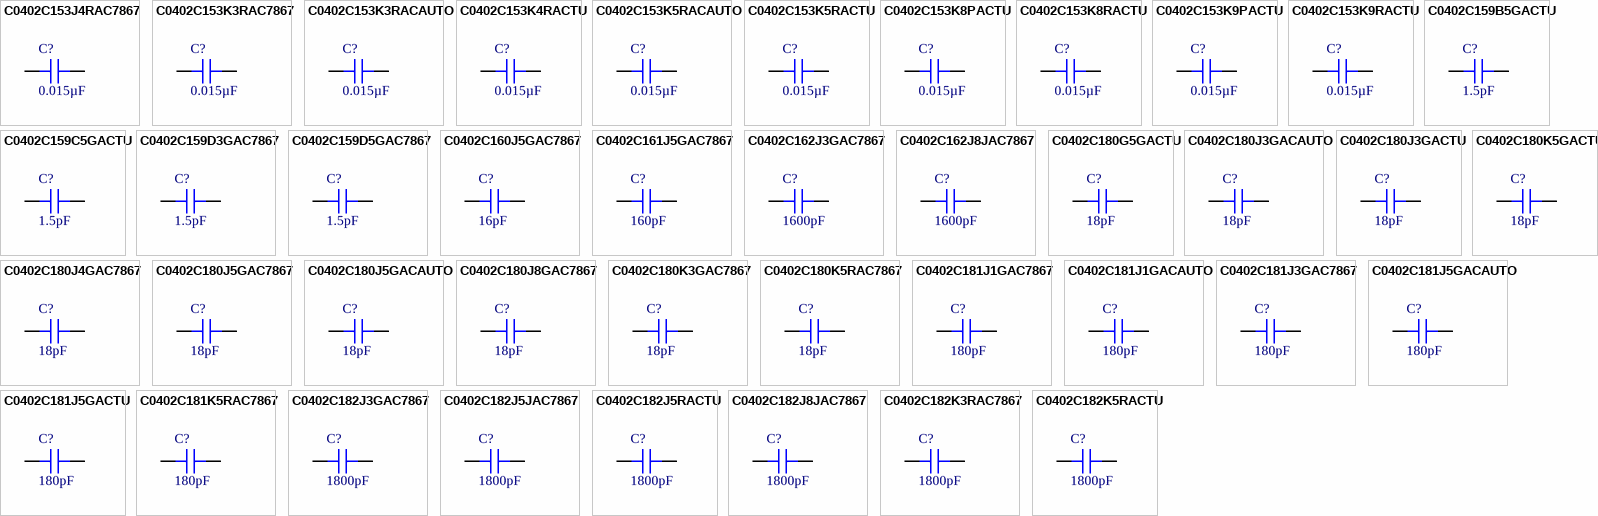
[diagram p36: symbols C0402C153J4RAC7867 to C0402C182K5RACTU]

## C0402C153J4RAC7867
designator C?, comment 0.015µF
CAP CER 0.015UF 16V X7R 0402; Part Number: C0402C153J4RAC7867; Manufacturer: KEMET; Tolerance: ±5%; Value: 0.015µF; Applications: Bypass, Decoupling; Capacitance: 0.015µF; ComponentLink1Description: Datasheet; ComponentLink1URL: https://api.kemet.com/component-edge/download/datasheet/C0402C153J4RACTU.pdf; ComponentLink2Description: DigiKey Link; ComponentLink2URL: http://digikey.com/product-detail/en/kemet/C0402C153J4RAC7867/399-17368-1-ND/8570335; Device Package: 0402 (1005 Metric); LastUpdated: 9/2/2020 1:02:05 AM; Lifecycle Status: Active; Minimum Order: 1; Mounting Type: Surface Mount, MLCC; Operating Temperature: -55°C ~ 125°C; Package / Case: 0402 (1005 Metric); Packaging: TapeAndReel; PartId: 10501; Part Status: Active; Price: 0.12; Series: SMD Comm X7R; Size / Dimension: 0.039" L x 0.020" W (1.00mm x 0.50mm); Supplier 1: DigiKey; Supplier Part Number 1: 399-17368-1-ND; Temperature Coefficient: X7R; Thickness (Max): 0.022" (0.55mm); Voltage - Rated: 16V
footprint CAP 0402_1005
pins: 1, 2

## C0402C153K3RAC7867
designator C?, comment 0.015µF
CAP CER 0.015UF 25V X7R 0402; Part Number: C0402C153K3RAC7867; Manufacturer: KEMET; Tolerance: ±10%; Value: 0.015µF; Applications: Bypass, Decoupling; Capacitance: 0.015µF; ComponentLink1Description: Datasheet; ComponentLink1URL: https://api.kemet.com/component-edge/download/datasheet/C0402C153K3RAC7867.pdf; ComponentLink2Description: DigiKey Link; ComponentLink2URL: http://digikey.com/product-detail/en/kemet/C0402C153K3RAC7867/399-14887-1-ND/7382436; Device Package: 0402 (1005 Metric); LastUpdated: 9/2/2020 1:02:17 AM; Lifecycle Status: Active; Minimum Order: 1; Mounting Type: Surface Mount, MLCC; Operating Temperature: -55°C ~ 125°C; Package / Case: 0402 (1005 Metric); Packaging: TapeAndReel; PartId: 4965; Part Status: Active; Price: 0.09; Series: SMD Comm X7R; Size / Dimension: 0.039" L x 0.020" W (1.00mm x 0.50mm); Supplier 1: DigiKey; Supplier Part Number 1: 399-14887-1-ND; Temperature Coefficient: X7R; Thickness (Max): 0.022" (0.55mm); Voltage - Rated: 25V
footprint CAP 0402_1005
pins: 1, 2

## C0402C153K3RACAUTO
designator C?, comment 0.015µF
CAP CER 0.015UF 25V X7R 0402; Part Number: C0402C153K3RACAUTO; Manufacturer: KEMET; Tolerance: ±10%; Value: 0.015µF; Applications: Automotive, Bypass, Decoupling; Capacitance: 0.015µF; ComponentLink1Description: Datasheet; ComponentLink1URL: https://api.kemet.com/component-edge/download/datasheet/C0402C153K3RACAUTO.pdf; ComponentLink2Description: DigiKey Link; ComponentLink2URL: http://digikey.com/product-detail/en/kemet/C0402C153K3RACAUTO/399-15795-1-ND/7516295; Device Package: 0402 (1005 Metric); LastUpdated: 9/2/2020 1:02:22 AM; Lifecycle Status: Active; Minimum Order: 1; Mounting Type: Surface Mount, MLCC; Operating Temperature: -55°C ~ 125°C; Package / Case: 0402 (1005 Metric); Packaging: TapeAndReel; PartId: 2534; Part Status: Active; Price: 0.10; Ratings: AEC-Q200; Series: SMD Auto X7R; Size / Dimension: 0.039" L x 0.020" W (1.00mm x 0.50mm); Supplier 1: DigiKey; Supplier Part Number 1: 399-15795-1-ND; Temperature Coefficient: X7R; Thickness (Max): 0.022" (0.55mm); Voltage - Rated: 25V
footprint CAP 0402_1005
pins: 1, 2

## C0402C153K4RACTU
designator C?, comment 0.015µF
CAP CER 0.015UF 16V X7R 0402; Part Number: C0402C153K4RACTU; Manufacturer: KEMET; Tolerance: ±10%; Value: 0.015µF; Applications: Bypass, Decoupling; Capacitance: 0.015µF; ComponentLink1Description: Datasheet; ComponentLink1URL: https://api.kemet.com/component-edge/download/datasheet/C0402C153K4RACTU.pdf; ComponentLink2Description: DigiKey Link; ComponentLink2URL: http://digikey.com/product-detail/en/kemet/C0402C153K4RACTU/399-4878-1-ND/1090873; Device Package: 0402 (1005 Metric); LastUpdated: 9/2/2020 1:02:25 AM; Lifecycle Status: Active; Minimum Order: 1; Mounting Type: Surface Mount, MLCC; Operating Temperature: -55°C ~ 125°C; Package / Case: 0402 (1005 Metric); Packaging: TapeAndReel; PartId: 1748; Part Status: Active; Price: 0.08; Series: SMD Comm X7R; Size / Dimension: 0.039" L x 0.020" W (1.00mm x 0.50mm); Supplier 1: DigiKey; Supplier Part Number 1: 399-4878-1-ND; Temperature Coefficient: X7R; Thickness (Max): 0.022" (0.55mm); Voltage - Rated: 16V
footprint CAP 0402_1005
pins: 1, 2

## C0402C153K5RACAUTO
designator C?, comment 0.015µF
CAP CER 0.015UF 50V X7R 0402; Part Number: C0402C153K5RACAUTO; Manufacturer: KEMET; Tolerance: ±10%; Value: 0.015µF; Applications: Automotive, Bypass, Decoupling; Capacitance: 0.015µF; ComponentLink1Description: Datasheet; ComponentLink1URL: https://api.kemet.com/component-edge/download/datasheet/C0402C153K5RACAUTO.pdf; ComponentLink2Description: DigiKey Link; ComponentLink2URL: http://digikey.com/product-detail/en/kemet/C0402C153K5RACAUTO/399-15990-1-ND/7516489; Device Package: 0402 (1005 Metric); LastUpdated: 9/2/2020 1:02:21 AM; Lifecycle Status: Active; Minimum Order: 1; Mounting Type: Surface Mount, MLCC; Operating Temperature: -55°C ~ 125°C; Package / Case: 0402 (1005 Metric); Packaging: TapeAndReel; PartId: 3071; Part Status: Active; Price: 0.06; Ratings: AEC-Q200; Series: SMD Auto X7R; Size / Dimension: 0.039" L x 0.020" W (1.00mm x 0.50mm); Supplier 1: DigiKey; Supplier Part Number 1: 399-15990-1-ND; Temperature Coefficient: X7R; Thickness (Max): 0.022" (0.55mm); Voltage - Rated: 50V
footprint CAP 0402_1005
pins: 1, 2